# Altium integrated library ON Semi General Purpose Transistors.IntLib: 1679 symbols (part 21 of 36)
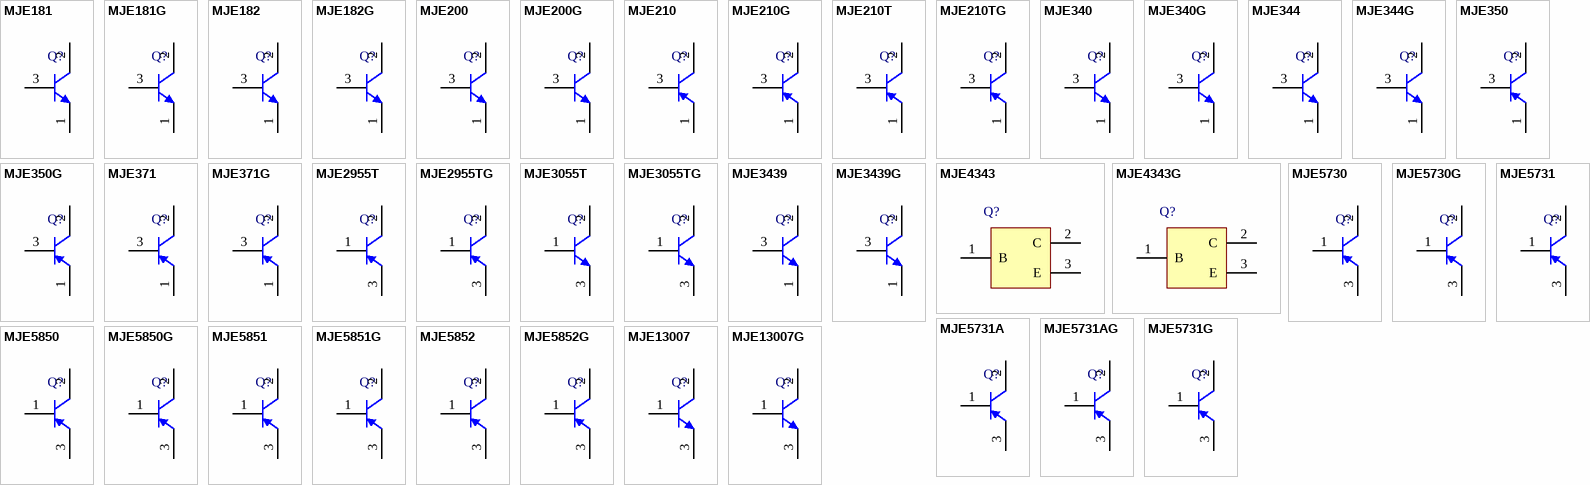
[diagram p65: symbols MJE181 to MJE13007G]

## MJE5851G
designator Q?
SWITCHMODE Series PNP Silicon Power Transistor, 3-Pin TO-220, Pb-Free, Tube; Manufacturer: On Semiconductor; PartNumber: MJE5851G; IC Continuous (A): 8; DatasheetVersion: Rev. 6; PackageVersion: Rev. AG, 09/2011; PackageReference: TO-220-3-221A-09; PackageDescription: 3-Pin Flange Mount, Vertical Straight Lead, Body 9.97 x 4.445 mm, Pitch 2.54 mm; Supplier 1: Digi-Key; Supplier Part Number 1: MJE5851GOS-ND; Supplier 2: Newark; Supplier Part Number 2: 42K1299; Supplier 3: Mouser; Supplier Part Number 3: 863-MJE5851G; Packing: Tube; Polarity: PNP; RoHS: TRUE; Mounting Technology: Through Hole; ComponentLink1Description: Manufacturer URL; ComponentLink1URL: http://www.onsemi.com/; ComponentLink2Description: Datasheet; ComponentLink2URL: http://www.onsemi.com/pub_link/Collateral/MJE5850-D.PDF; ComponentLink3Description: Package Specification; ComponentLink3URL: http://www.onsemi.com/pub_link/Collateral/221A-09.PDF
footprint ONSC-TO-220-3-221A-09 (FM, 3-Leads, Body 10.3x4.85mm, Pitch 2.54mm)
pins: 1 B, 2 C, 3 E

## MJE5852
designator Q?
SWITCHMODE Series PNP Silicon Power Transistor, 3-Pin TO-220, Tube; Manufacturer: On Semiconductor; PartNumber: MJE5852; IC Continuous (A): 8; DatasheetVersion: Rev. 6; PackageVersion: Rev. AG, 09/2011; PackageReference: TO-220-3-221A-09; PackageDescription: 3-Pin Flange Mount, Vertical Straight Lead, Body 9.97 x 4.445 mm, Pitch 2.54 mm; Supplier 1: Digi-Key; Supplier Part Number 1: MJE5852OS-ND; Packing: Tube; Polarity: PNP; RoHS: FALSE; Mounting Technology: Through Hole; ComponentLink1Description: Manufacturer URL; ComponentLink1URL: http://www.onsemi.com/; ComponentLink2Description: Datasheet; ComponentLink2URL: http://www.onsemi.com/pub_link/Collateral/MJE5850-D.PDF; ComponentLink3Description: Package Specification; ComponentLink3URL: http://www.onsemi.com/pub_link/Collateral/221A-09.PDF
footprint ONSC-TO-220-3-221A-09 (FM, 3-Leads, Body 10.3x4.85mm, Pitch 2.54mm)
pins: 1 B, 2 C, 3 E

## MJE5852G
designator Q?
SWITCHMODE Series PNP Silicon Power Transistor, 3-Pin TO-220, Pb-Free, Tube; Manufacturer: On Semiconductor; PartNumber: MJE5852G; IC Continuous (A): 8; DatasheetVersion: Rev. 6; PackageVersion: Rev. AG, 09/2011; PackageReference: TO-220-3-221A-09; PackageDescription: 3-Pin Flange Mount, Vertical Straight Lead, Body 9.97 x 4.445 mm, Pitch 2.54 mm; Supplier 1: Digi-Key; Supplier Part Number 1: MJE5852GOS-ND; Supplier 2: Farnell; Supplier Part Number 2: 9555889; Supplier 3: Newark; Supplier Part Number 3: 26K4469; Supplier 4: Mouser; Supplier Part Number 4: 863-MJE5852G; Packing: Tube; Polarity: PNP; RoHS: TRUE; Mounting Technology: Through Hole; ComponentLink1Description: Manufacturer URL; ComponentLink1URL: http://www.onsemi.com/; ComponentLink2Description: Datasheet; ComponentLink2URL: http://www.onsemi.com/pub_link/Collateral/MJE5850-D.PDF; ComponentLink3Description: Package Specification; ComponentLink3URL: http://www.onsemi.com/pub_link/Collateral/221A-09.PDF
footprint ONSC-TO-220-3-221A-09 (FM, 3-Leads, Body 10.3x4.85mm, Pitch 2.54mm)
pins: 1 B, 2 C, 3 E

## MJE13007
designator Q?
SWITCHMODE, NPN Bipolar Power Transistor for Switching Power Supply Application, 3-Pin TO-220, Tube; Manufacturer: On Semiconductor; PartNumber: MJE13007; fT Min (MHz): 4; IC Continuous (A): 8; DatasheetVersion: Rev. 8; PackageVersion: Rev. AG, 09/2011; PackageReference: TO-220-3-221A-09; PackageDescription: 3-Pin Flange Mount, Vertical Straight Lead, Body 9.97 x 4.445 mm, Pitch 2.54 mm; Supplier 1: Digi-Key; Supplier Part Number 1: MJE13007OS-ND; Packing: Tube; Polarity: NPN; RoHS: FALSE; Mounting Technology: Through Hole; ComponentLink1Description: Manufacturer URL; ComponentLink1URL: http://www.onsemi.com/; ComponentLink2Description: Datasheet; ComponentLink2URL: http://www.onsemi.cn/pub_link/Collateral/MJE13007-D.PDF; ComponentLink3Description: Package Specification; ComponentLink3URL: http://www.onsemi.com/pub_link/Collateral/221A-09.PDF
footprint ONSC-TO-220-3-221A-09 (FM, 3-Leads, Body 10.3x4.85mm, Pitch 2.54mm)
pins: 1 B, 2 C, 3 E

## MJE13007G
designator Q?
SWITCHMODE, NPN Bipolar Power Transistor for Switching Power Supply Application, 3-Pin TO-220, Pb-Free, Tube; Manufacturer: On Semiconductor; PartNumber: MJE13007G; fT Min (MHz): 4; IC Continuous (A): 8; DatasheetVersion: Rev. 8; PackageVersion: Rev. AG, 09/2011; PackageReference: TO-220-3-221A-09; PackageDescription: 3-Pin Flange Mount, Vertical Straight Lead, Body 9.97 x 4.445 mm, Pitch 2.54 mm; Supplier 1: Digi-Key; Supplier Part Number 1: MJE13007GOS-ND; Supplier 2: Farnell; Supplier Part Number 2: 9557857; Supplier 3: Newark; Supplier Part Number 3: 71J5860; Supplier 4: Mouser; Supplier Part Number 4: 863-MJE13007G; Packing: Tube; Polarity: NPN; RoHS: TRUE; Mounting Technology: Through Hole; ComponentLink1Description: Manufacturer URL; ComponentLink1URL: http://www.onsemi.com/; ComponentLink2Description: Datasheet; ComponentLink2URL: http://www.onsemi.cn/pub_link/Collateral/MJE13007-D.PDF; ComponentLink3Description: Package Specification; ComponentLink3URL: http://www.onsemi.com/pub_link/Collateral/221A-09.PDF
footprint ONSC-TO-220-3-221A-09 (FM, 3-Leads, Body 10.3x4.85mm, Pitch 2.54mm)
pins: 1 B, 2 C, 3 E

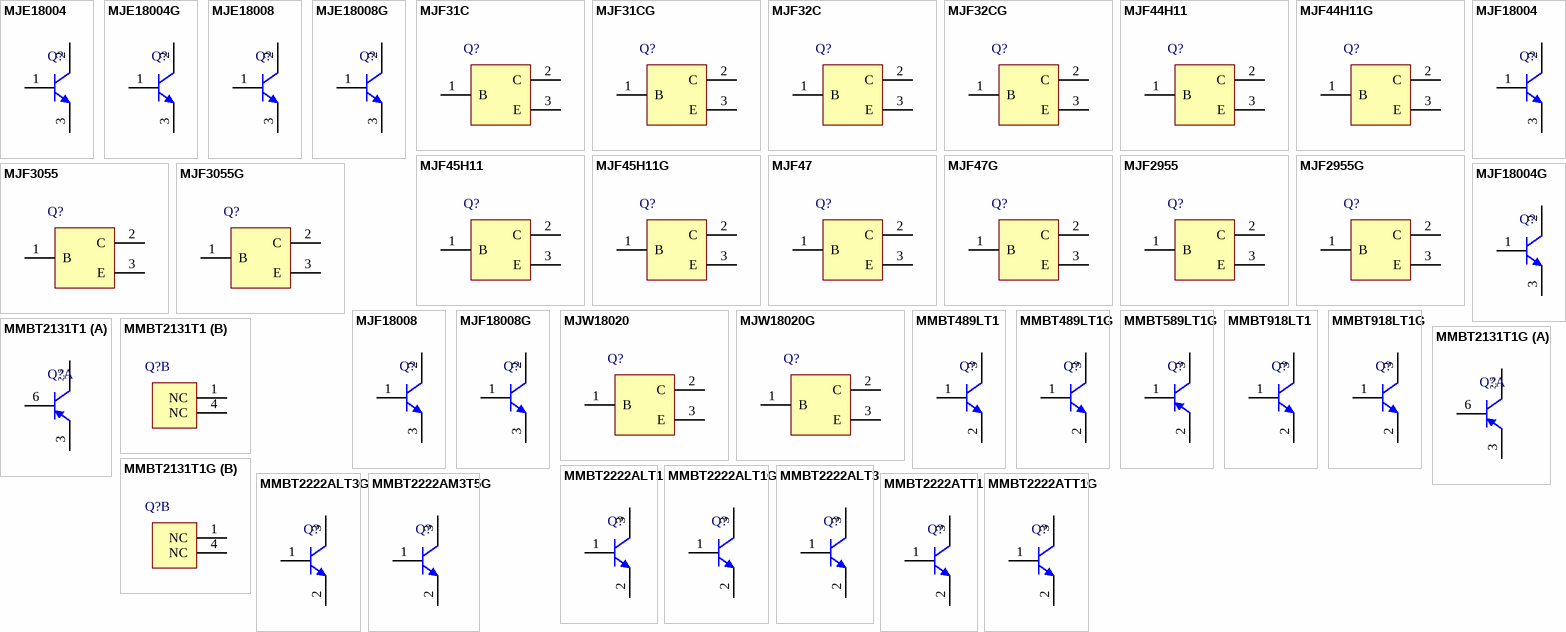
[diagram p26: symbols MJE18004 to MMBT2222ATT1G]

## MJE18004
designator Q?
SWITCHMODE, NPN Bipolar Power Transistor for Switching Power Supply Application, 3-Pin TO-220, Tube; Manufacturer: On Semiconductor; PartNumber: MJE18004; IC Continuous (A): 5; DatasheetVersion: Rev. 11; PackageVersion: Rev. AG, 09/2011; PackageReference: TO-220-3-221A-09; PackageDescription: 3-Pin Flange Mount, Vertical Straight Lead, Body 9.97 x 4.445 mm, Pitch 2.54 mm; Supplier 1: Digi-Key; Supplier Part Number 1: MJE18004OS-ND; Packing: Tube; Polarity: NPN; RoHS: FALSE; Mounting Technology: Through Hole; ComponentLink1Description: Manufacturer URL; ComponentLink1URL: http://www.onsemi.com/; ComponentLink2Description: Datasheet; ComponentLink2URL: http://www.onsemi.com/pub_link/Collateral/MJE18004-D.PDF; ComponentLink3Description: Package Specification; ComponentLink3URL: http://www.onsemi.com/pub_link/Collateral/221A-09.PDF
footprint ONSC-TO-220-3-221A-09 (FM, 3-Leads, Body 10.3x4.85mm, Pitch 2.54mm)
pins: 1 B, 2 C, 3 E

## MJE18004G
designator Q?
SWITCHMODE, NPN Bipolar Power Transistor for Switching Power Supply Application, 3-Pin TO-220, Pb-Free, Tube; Manufacturer: On Semiconductor; PartNumber: MJE18004G; IC Continuous (A): 5; DatasheetVersion: Rev. 11; PackageVersion: Rev. AG, 09/2011; PackageReference: TO-220-3-221A-09; PackageDescription: 3-Pin Flange Mount, Vertical Straight Lead, Body 9.97 x 4.445 mm, Pitch 2.54 mm; Supplier 1: Digi-Key; Supplier Part Number 1: MJE18004GOS-ND; Supplier 2: Newark; Supplier Part Number 2: 26K4456; Supplier 3: Mouser; Supplier Part Number 3: 863-MJE18004G; Packing: Tube; Polarity: NPN; RoHS: TRUE; Mounting Technology: Through Hole; ComponentLink1Description: Manufacturer URL; ComponentLink1URL: http://www.onsemi.com/; ComponentLink2Description: Datasheet; ComponentLink2URL: http://www.onsemi.com/pub_link/Collateral/MJE18004-D.PDF; ComponentLink3Description: Package Specification; ComponentLink3URL: http://www.onsemi.com/pub_link/Collateral/221A-09.PDF
footprint ONSC-TO-220-3-221A-09 (FM, 3-Leads, Body 10.3x4.85mm, Pitch 2.54mm)
pins: 1 B, 2 C, 3 E

## MJE18008
designator Q?
SWITCHMODE, NPN Bipolar Power Transistor for Switching Power Supply Application, 3-Pin TO-220, Tube; Manufacturer: On Semiconductor; PartNumber: MJE18008; IC Continuous (A): 8; DatasheetVersion: Rev. 9; PackageVersion: Rev. AG, 09/2011; PackageReference: TO-220-3-221A-09; PackageDescription: 3-Pin Flange Mount, Vertical Straight Lead, Body 9.97 x 4.445 mm, Pitch 2.54 mm; Supplier 1: Digi-Key; Supplier Part Number 1: MJE18008OS-ND; Packing: Tube; Polarity: NPN; RoHS: FALSE; Mounting Technology: Through Hole; ComponentLink1Description: Manufacturer URL; ComponentLink1URL: http://www.onsemi.com/; ComponentLink2Description: Datasheet; ComponentLink2URL: http://www.onsemi.com/pub_link/Collateral/MJE18008-D.PDF; ComponentLink3Description: Package Specification; ComponentLink3URL: http://www.onsemi.com/pub_link/Collateral/221A-09.PDF
footprint ONSC-TO-220-3-221A-09 (FM, 3-Leads, Body 10.3x4.85mm, Pitch 2.54mm)
pins: 1 B, 2 C, 3 E

## MJE18008G
designator Q?
SWITCHMODE, NPN Bipolar Power Transistor for Switching Power Supply Application, 3-Pin TO-220, Pb-Free, Tube; Manufacturer: On Semiconductor; PartNumber: MJE18008G; IC Continuous (A): 8; DatasheetVersion: Rev. 9; PackageVersion: Rev. AG, 09/2011; PackageReference: TO-220-3-221A-09; PackageDescription: 3-Pin Flange Mount, Vertical Straight Lead, Body 9.97 x 4.445 mm, Pitch 2.54 mm; Supplier 1: Digi-Key; Supplier Part Number 1: MJE18008GOS-ND; Supplier 2: Farnell; Supplier Part Number 2: 1263959; Supplier 3: Newark; Supplier Part Number 3: 45J1499; Supplier 4: Mouser; Supplier Part Number 4: 863-MJE18008G; Packing: Tube; Polarity: NPN; RoHS: TRUE; Mounting Technology: Through Hole; ComponentLink1Description: Manufacturer URL; ComponentLink1URL: http://www.onsemi.com/; ComponentLink2Description: Datasheet; ComponentLink2URL: http://www.onsemi.com/pub_link/Collateral/MJE18008-D.PDF; ComponentLink3Description: Package Specification; ComponentLink3URL: http://www.onsemi.com/pub_link/Collateral/221A-09.PDF
footprint ONSC-TO-220-3-221A-09 (FM, 3-Leads, Body 10.3x4.85mm, Pitch 2.54mm)
pins: 1 B, 2 C, 3 E

## MJF31C
designator Q?
Complementary Silicon Plastic Power Transistor for Isolated Package Application, 3-Pin TO-220, Tube; Manufacturer: On Semiconductor; PartNumber: MJF31C; fT Min (MHz): 3; Polarity: NPN; DatasheetVersion: Rev. 5; PackageVersion: Rev. K, 02/2009; PackageReference: TO-220-3-221D-03; PackageDescription: 3-Pin Flange Mount, Vertical Straight Lead, Body 10.295 x 4.7 mm, Pitch 2.54 mm; Supplier 1: Digi-Key; Supplier Part Number 1: MJF31C-ND; IC Continuous (A): 3; Packing: Tube; RoHS: FALSE; Mounting Technology: Through Hole; ComponentLink1Description: Manufacturer URL; ComponentLink1URL: http://www.onsemi.com/; ComponentLink2Description: Datasheet; ComponentLink2URL: http://www.onsemi.com/pub_link/Collateral/MJF31C-D.PDF; ComponentLink3Description: Package Specification; ComponentLink3URL: http://www.onsemi.com/pub_link/Collateral/221D-03.PDF
footprint ONSC-TO-220-3-221D-03 (FM, 3-Leads, Body 10.65x4.9mm, Pitch 2.54mm)
pins: 1 B, 2 C, 3 E

## MJF31CG
designator Q?
Complementary Silicon Plastic Power Transistor for Isolated Package Application, 3-Pin TO-220, Pb-Free, Tube; Manufacturer: On Semiconductor; PartNumber: MJF31CG; fT Min (MHz): 3; Polarity: NPN; DatasheetVersion: Rev. 5; PackageVersion: Rev. K, 02/2009; PackageReference: TO-220-3-221D-03; PackageDescription: 3-Pin Flange Mount, Vertical Straight Lead, Body 10.295 x 4.7 mm, Pitch 2.54 mm; Supplier 1: Digi-Key; Supplier Part Number 1: MJF31CGOS-ND; Supplier 2: Farnell; Supplier Part Number 2: 1364072; Supplier 3: Newark; Supplier Part Number 3: 26K4479; Supplier 4: Mouser; Supplier Part Number 4: 863-MJF31CG; IC Continuous (A): 3; Packing: Tube; RoHS: TRUE; Mounting Technology: Through Hole; ComponentLink1Description: Manufacturer URL; ComponentLink1URL: http://www.onsemi.com/; ComponentLink2Description: Datasheet; ComponentLink2URL: http://www.onsemi.com/pub_link/Collateral/MJF31C-D.PDF; ComponentLink3Description: Package Specification; ComponentLink3URL: http://www.onsemi.com/pub_link/Collateral/221D-03.PDF
footprint ONSC-TO-220-3-221D-03 (FM, 3-Leads, Body 10.65x4.9mm, Pitch 2.54mm)
pins: 1 B, 2 C, 3 E

## MJF32C
designator Q?
Complementary Silicon Plastic Power Transistor for Isolated Package Application, 3-Pin TO-220, Tube; Manufacturer: On Semiconductor; PartNumber: MJF32C; fT Min (MHz): 3; Polarity: PNP; DatasheetVersion: Rev. 5; PackageVersion: Rev. K, 02/2009; PackageReference: TO-220-3-221D-03; PackageDescription: 3-Pin Flange Mount, Vertical Straight Lead, Body 10.295 x 4.7 mm, Pitch 2.54 mm; Supplier 1: Digi-Key; Supplier Part Number 1: MJF32C-ND; IC Continuous (A): 3; Packing: Tube; RoHS: FALSE; Mounting Technology: Through Hole; ComponentLink1Description: Manufacturer URL; ComponentLink1URL: http://www.onsemi.com/; ComponentLink2Description: Datasheet; ComponentLink2URL: http://www.onsemi.com/pub_link/Collateral/MJF31C-D.PDF; ComponentLink3Description: Package Specification; ComponentLink3URL: http://www.onsemi.com/pub_link/Collateral/221D-03.PDF
footprint ONSC-TO-220-3-221D-03 (FM, 3-Leads, Body 10.65x4.9mm, Pitch 2.54mm)
pins: 1 B, 2 C, 3 E

## MJF32CG
designator Q?
Complementary Silicon Plastic Power Transistor for Isolated Package Application, 3-Pin TO-220, Pb-Free, Tube; Manufacturer: On Semiconductor; PartNumber: MJF32CG; fT Min (MHz): 3; Polarity: PNP; DatasheetVersion: Rev. 5; PackageVersion: Rev. K, 02/2009; PackageReference: TO-220-3-221D-03; PackageDescription: 3-Pin Flange Mount, Vertical Straight Lead, Body 10.295 x 4.7 mm, Pitch 2.54 mm; Supplier 1: Digi-Key; Supplier Part Number 1: MJF32CG-ND; Supplier 2: Newark; Supplier Part Number 2: 71J5862; Supplier 3: Mouser; Supplier Part Number 3: 863-MJF32CG; IC Continuous (A): 3; Packing: Tube; RoHS: TRUE; Mounting Technology: Through Hole; ComponentLink1Description: Manufacturer URL; ComponentLink1URL: http://www.onsemi.com/; ComponentLink2Description: Datasheet; ComponentLink2URL: http://www.onsemi.com/pub_link/Collateral/MJF31C-D.PDF; ComponentLink3Description: Package Specification; ComponentLink3URL: http://www.onsemi.com/pub_link/Collateral/221D-03.PDF
footprint ONSC-TO-220-3-221D-03 (FM, 3-Leads, Body 10.65x4.9mm, Pitch 2.54mm)
pins: 1 B, 2 C, 3 E

## MJF44H11
designator Q?
Complementary Power Transistor for Isolated Package Application, 3-Pin TO-220, Tube; Manufacturer: On Semiconductor; PartNumber: MJF44H11; IC Continuous (A): 10; Polarity: NPN; DatasheetVersion: Rev. 6; PackageVersion: Rev. K, 02/2009; PackageReference: TO-220-3-221D-03; PackageDescription: 3-Pin Flange Mount, Vertical Straight Lead, Body 10.295 x 4.7 mm, Pitch 2.54 mm; Supplier 1: Digi-Key; Supplier Part Number 1: MJF44H11OS-ND; Packing: Tube; RoHS: FALSE; Mounting Technology: Through Hole; ComponentLink1Description: Manufacturer URL; ComponentLink1URL: http://www.onsemi.com/; ComponentLink2Description: Datasheet; ComponentLink2URL: http://www.onsemi.com/pub_link/Collateral/MJF44H11-D.PDF; ComponentLink3Description: Package Specification; ComponentLink3URL: http://www.onsemi.com/pub_link/Collateral/221D-03.PDF
footprint ONSC-TO-220-3-221D-03 (FM, 3-Leads, Body 10.65x4.9mm, Pitch 2.54mm)
pins: 1 B, 2 C, 3 E

## MJF44H11G
designator Q?
Complementary Power Transistor for Isolated Package Application, 3-Pin TO-220, Pb-Free, Tube; Manufacturer: On Semiconductor; PartNumber: MJF44H11G; IC Continuous (A): 10; Polarity: NPN; DatasheetVersion: Rev. 6; PackageVersion: Rev. K, 02/2009; PackageReference: TO-220-3-221D-03; PackageDescription: 3-Pin Flange Mount, Vertical Straight Lead, Body 10.295 x 4.7 mm, Pitch 2.54 mm; Supplier 1: Digi-Key; Supplier Part Number 1: MJF44H11GOS-ND; Supplier 2: Farnell; Supplier Part Number 2: 1242424; Supplier 3: Newark; Supplier Part Number 3: 42K1301; Supplier 4: Mouser; Supplier Part Number 4: 863-MJF44H11G; Packing: Tube; RoHS: TRUE; Mounting Technology: Through Hole; ComponentLink1Description: Manufacturer URL; ComponentLink1URL: http://www.onsemi.com/; ComponentLink2Description: Datasheet; ComponentLink2URL: http://www.onsemi.com/pub_link/Collateral/MJF44H11-D.PDF; ComponentLink3Description: Package Specification; ComponentLink3URL: http://www.onsemi.com/pub_link/Collateral/221D-03.PDF
footprint ONSC-TO-220-3-221D-03 (FM, 3-Leads, Body 10.65x4.9mm, Pitch 2.54mm)
pins: 1 B, 2 C, 3 E

## MJF45H11
designator Q?
Complementary Power Transistor for Isolated Package Application, 3-Pin TO-220, Tube; Manufacturer: On Semiconductor; PartNumber: MJF45H11; IC Continuous (A): 10; Polarity: PNP; DatasheetVersion: Rev. 6; PackageVersion: Rev. K, 02/2009; PackageReference: TO-220-3-221D-03; PackageDescription: 3-Pin Flange Mount, Vertical Straight Lead, Body 10.295 x 4.7 mm, Pitch 2.54 mm; Supplier 1: Digi-Key; Supplier Part Number 1: MJF45H11-ND; Packing: Tube; RoHS: FALSE; Mounting Technology: Through Hole; ComponentLink1Description: Manufacturer URL; ComponentLink1URL: http://www.onsemi.com/; ComponentLink2Description: Datasheet; ComponentLink2URL: http://www.onsemi.com/pub_link/Collateral/MJF44H11-D.PDF; ComponentLink3Description: Package Specification; ComponentLink3URL: http://www.onsemi.com/pub_link/Collateral/221D-03.PDF
footprint ONSC-TO-220-3-221D-03 (FM, 3-Leads, Body 10.65x4.9mm, Pitch 2.54mm)
pins: 1 B, 2 C, 3 E

## MJF45H11G
designator Q?
Complementary Power Transistor for Isolated Package Application, 3-Pin TO-220, Pb-Free, Tube; Manufacturer: On Semiconductor; PartNumber: MJF45H11G; IC Continuous (A): 10; Polarity: PNP; DatasheetVersion: Rev. 6; PackageVersion: Rev. K, 02/2009; PackageReference: TO-220-3-221D-03; PackageDescription: 3-Pin Flange Mount, Vertical Straight Lead, Body 10.295 x 4.7 mm, Pitch 2.54 mm; Supplier 1: Digi-Key; Supplier Part Number 1: MJF45H11GOS-ND; Supplier 2: Farnell; Supplier Part Number 2: 1147708; Supplier 3: Newark; Supplier Part Number 3: 42K1302; Supplier 4: Mouser; Supplier Part Number 4: 863-MJF45H11G; Packing: Tube; RoHS: TRUE; Mounting Technology: Through Hole; ComponentLink1Description: Manufacturer URL; ComponentLink1URL: http://www.onsemi.com/; ComponentLink2Description: Datasheet; ComponentLink2URL: http://www.onsemi.com/pub_link/Collateral/MJF44H11-D.PDF; ComponentLink3Description: Package Specification; ComponentLink3URL: http://www.onsemi.com/pub_link/Collateral/221D-03.PDF
footprint ONSC-TO-220-3-221D-03 (FM, 3-Leads, Body 10.65x4.9mm, Pitch 2.54mm)
pins: 1 B, 2 C, 3 E

## MJF47
designator Q?
High Voltage Power Transistor, Isolated Package Application, 3-Pin TO-220, Tube; Manufacturer: On Semiconductor; PartNumber: MJF47; fT Min (MHz): 10; IC Continuous (A): 1; Polarity: NPN; DatasheetVersion: Rev. 6; PackageVersion: Rev. K, 02/2009; PackageReference: TO-220-3-221D-03; PackageDescription: 3-Pin Flange Mount, Vertical Straight Lead, Body 10.295 x 4.7 mm, Pitch 2.54 mm; Supplier 1: Digi-Key; Supplier Part Number 1: MJF47OS-ND; Packing: Tube; RoHS: FALSE; Mounting Technology: Through Hole; ComponentLink1Description: Manufacturer URL; ComponentLink1URL: http://www.onsemi.com/; ComponentLink2Description: Datasheet; ComponentLink2URL: http://www.onsemi.com/pub_link/Collateral/MJF47-D.PDF; ComponentLink3Description: Package Specification; ComponentLink3URL: http://www.onsemi.com/pub_link/Collateral/221D-03.PDF
footprint ONSC-TO-220-3-221D-03 (FM, 3-Leads, Body 10.65x4.9mm, Pitch 2.54mm)
pins: 1 B, 2 C, 3 E

## MJF47G
designator Q?
High Voltage Power Transistor, Isolated Package Application, 3-Pin TO-220, Pb-Free, Tube; Manufacturer: On Semiconductor; PartNumber: MJF47G; fT Min (MHz): 10; IC Continuous (A): 1; Polarity: NPN; DatasheetVersion: Rev. 6; PackageVersion: Rev. K, 02/2009; PackageReference: TO-220-3-221D-03; PackageDescription: 3-Pin Flange Mount, Vertical Straight Lead, Body 10.295 x 4.7 mm, Pitch 2.54 mm; Supplier 1: Digi-Key; Supplier Part Number 1: MJF47GOS-ND; Supplier 2: Newark; Supplier Part Number 2: 42K1303; Supplier 3: Mouser; Supplier Part Number 3: 863-MJF47G; Packing: Tube; RoHS: TRUE; Mounting Technology: Through Hole; ComponentLink1Description: Manufacturer URL; ComponentLink1URL: http://www.onsemi.com/; ComponentLink2Description: Datasheet; ComponentLink2URL: http://www.onsemi.com/pub_link/Collateral/MJF47-D.PDF; ComponentLink3Description: Package Specification; ComponentLink3URL: http://www.onsemi.com/pub_link/Collateral/221D-03.PDF
footprint ONSC-TO-220-3-221D-03 (FM, 3-Leads, Body 10.65x4.9mm, Pitch 2.54mm)
pins: 1 B, 2 C, 3 E

## MJF2955
designator Q?
Complementary Silicon Power Transistor, 3-Pin TO-220, Tube; Manufacturer: On Semiconductor; PartNumber: MJF2955; fT Min (MHz): 2; IC Continuous (A): 10; Polarity: PNP; DatasheetVersion: Rev. 7; PackageVersion: Rev. K, 02/2009; PackageReference: TO-220-3-221D-03; PackageDescription: 3-Pin Flange Mount, Vertical Straight Lead, Body 10.295 x 4.7 mm, Pitch 2.54 mm; Supplier 1: Digi-Key; Supplier Part Number 1: MJF2955-ND; Packing: Tube; RoHS: FALSE; Mounting Technology: Through Hole; ComponentLink1Description: Manufacturer URL; ComponentLink1URL: http://www.onsemi.com/; ComponentLink2Description: Datasheet; ComponentLink2URL: http://www.onsemi.com/pub_link/Collateral/MJF3055-D.PDF; ComponentLink3Description: Package Specification; ComponentLink3URL: http://www.onsemi.com/pub_link/Collateral/221D-03.PDF
footprint ONSC-TO-220-3-221D-03 (FM, 3-Leads, Body 10.65x4.9mm, Pitch 2.54mm)
pins: 1 B, 2 C, 3 E

## MJF2955G
designator Q?
Complementary Silicon Power Transistor, 3-Pin TO-220, Pb-Free, Tube; Manufacturer: On Semiconductor; PartNumber: MJF2955G; fT Min (MHz): 2; IC Continuous (A): 10; Polarity: PNP; DatasheetVersion: Rev. 7; PackageVersion: Rev. K, 02/2009; PackageReference: TO-220-3-221D-03; PackageDescription: 3-Pin Flange Mount, Vertical Straight Lead, Body 10.295 x 4.7 mm, Pitch 2.54 mm; Supplier 1: Digi-Key; Supplier Part Number 1: MJF2955GOS-ND; Supplier 2: Newark; Supplier Part Number 2: 98H0740; Supplier 3: Mouser; Supplier Part Number 3: 863-MJF2955G; Packing: Tube; RoHS: TRUE; Mounting Technology: Through Hole; ComponentLink1Description: Manufacturer URL; ComponentLink1URL: http://www.onsemi.com/; ComponentLink2Description: Datasheet; ComponentLink2URL: http://www.onsemi.com/pub_link/Collateral/MJF3055-D.PDF; ComponentLink3Description: Package Specification; ComponentLink3URL: http://www.onsemi.com/pub_link/Collateral/221D-03.PDF
footprint ONSC-TO-220-3-221D-03 (FM, 3-Leads, Body 10.65x4.9mm, Pitch 2.54mm)
pins: 1 B, 2 C, 3 E

## MJF3055
designator Q?
Complementary Silicon Power Transistor, 3-Pin TO-220, Tube; Manufacturer: On Semiconductor; PartNumber: MJF3055; fT Min (MHz): 2; IC Continuous (A): 10; Polarity: NPN; DatasheetVersion: Rev. 7; PackageVersion: Rev. K, 02/2009; PackageReference: TO-220-3-221D-03; PackageDescription: 3-Pin Flange Mount, Vertical Straight Lead, Body 10.295 x 4.7 mm, Pitch 2.54 mm; Supplier 1: Digi-Key; Supplier Part Number 1: MJF3055OS-ND; Packing: Tube; RoHS: FALSE; Mounting Technology: Through Hole; ComponentLink1Description: Manufacturer URL; ComponentLink1URL: http://www.onsemi.com/; ComponentLink2Description: Datasheet; ComponentLink2URL: http://www.onsemi.com/pub_link/Collateral/MJF3055-D.PDF; ComponentLink3Description: Package Specification; ComponentLink3URL: http://www.onsemi.com/pub_link/Collateral/221D-03.PDF
footprint ONSC-TO-220-3-221D-03 (FM, 3-Leads, Body 10.65x4.9mm, Pitch 2.54mm)
pins: 1 B, 2 C, 3 E

## MJF3055G
designator Q?
Complementary Silicon Power Transistor, 3-Pin TO-220, Pb-Free, Tube; Manufacturer: On Semiconductor; PartNumber: MJF3055G; fT Min (MHz): 2; IC Continuous (A): 10; Polarity: NPN; DatasheetVersion: Rev. 7; PackageVersion: Rev. K, 02/2009; PackageReference: TO-220-3-221D-03; PackageDescription: 3-Pin Flange Mount, Vertical Straight Lead, Body 10.295 x 4.7 mm, Pitch 2.54 mm; Supplier 1: Digi-Key; Supplier Part Number 1: MJF3055GOS-ND; Supplier 2: Farnell; Supplier Part Number 2: 2101380; Supplier 3: Newark; Supplier Part Number 3: 45J1508; Supplier 4: Mouser; Supplier Part Number 4: 863-MJF3055G; Packing: Tube; RoHS: TRUE; Mounting Technology: Through Hole; ComponentLink1Description: Manufacturer URL; ComponentLink1URL: http://www.onsemi.com/; ComponentLink2Description: Datasheet; ComponentLink2URL: http://www.onsemi.com/pub_link/Collateral/MJF3055-D.PDF; ComponentLink3Description: Package Specification; ComponentLink3URL: http://www.onsemi.com/pub_link/Collateral/221D-03.PDF
footprint ONSC-TO-220-3-221D-03 (FM, 3-Leads, Body 10.65x4.9mm, Pitch 2.54mm)
pins: 1 B, 2 C, 3 E

## MJF18004
designator Q?
SWITCHMODE, NPN Bipolar Power Transistor for Switching Power Supply Application, 3-Pin TO-220, Tube; Manufacturer: On Semiconductor; PartNumber: MJF18004; IC Continuous (A): 5; DatasheetVersion: Rev. 11; PackageVersion: Rev. K, 02/2009; PackageReference: TO-220-3-221D-03; PackageDescription: 3-Pin Flange Mount, Vertical Straight Lead, Body 10.295 x 4.7 mm, Pitch 2.54 mm; Supplier 1: Digi-Key; Supplier Part Number 1: MJF18004OS-ND; Packing: Tube; Polarity: NPN; RoHS: FALSE; Mounting Technology: Through Hole; ComponentLink1Description: Manufacturer URL; ComponentLink1URL: http://www.onsemi.com/; ComponentLink2Description: Datasheet; ComponentLink2URL: http://www.onsemi.com/pub_link/Collateral/MJE18004-D.PDF; ComponentLink3Description: Package Specification; ComponentLink3URL: http://www.onsemi.com/pub_link/Collateral/221D-03.PDF
footprint ONSC-TO-220-3-221D-03 (FM, 3-Leads, Body 10.65x4.9mm, Pitch 2.54mm)
pins: 1 B, 2 C, 3 E

## MJF18004G
designator Q?
SWITCHMODE, NPN Bipolar Power Transistor for Switching Power Supply Application, 3-Pin TO-220, Pb-Free, Tube; Manufacturer: On Semiconductor; PartNumber: MJF18004G; IC Continuous (A): 5; DatasheetVersion: Rev. 11; PackageVersion: Rev. K, 02/2009; PackageReference: TO-220-3-221D-03; PackageDescription: 3-Pin Flange Mount, Vertical Straight Lead, Body 10.295 x 4.7 mm, Pitch 2.54 mm; Supplier 1: Digi-Key; Supplier Part Number 1: MJF18004GOS-ND; Supplier 2: Farnell; Supplier Part Number 2: 9557873; Supplier 3: Newark; Supplier Part Number 3: 26K4478; Supplier 4: Mouser; Supplier Part Number 4: 863-MJF18004G; Packing: Tube; Polarity: NPN; RoHS: TRUE; Mounting Technology: Through Hole; ComponentLink1Description: Manufacturer URL; ComponentLink1URL: http://www.onsemi.com/; ComponentLink2Description: Datasheet; ComponentLink2URL: http://www.onsemi.com/pub_link/Collateral/MJE18004-D.PDF; ComponentLink3Description: Package Specification; ComponentLink3URL: http://www.onsemi.com/pub_link/Collateral/221D-03.PDF
footprint ONSC-TO-220-3-221D-03 (FM, 3-Leads, Body 10.65x4.9mm, Pitch 2.54mm)
pins: 1 B, 2 C, 3 E

## MJF18008
designator Q?
SWITCHMODE, NPN Bipolar Power Transistor for Switching Power Supply Application, 3-Pin TO-220, Tube; Manufacturer: On Semiconductor; PartNumber: MJF18008; IC Continuous (A): 8; DatasheetVersion: Rev. 9; PackageVersion: Rev. K, 02/2009; PackageReference: TO-220-3-221D-03; PackageDescription: 3-Pin Flange Mount, Vertical Straight Lead, Body 10.295 x 4.7 mm, Pitch 2.54 mm; Supplier 1: Digi-Key; Supplier Part Number 1: MJF18008OS-ND; Packing: Tube; Polarity: NPN; RoHS: FALSE; Mounting Technology: Through Hole; ComponentLink1Description: Manufacturer URL; ComponentLink1URL: http://www.onsemi.com/; ComponentLink2Description: Datasheet; ComponentLink2URL: http://www.onsemi.com/pub_link/Collateral/MJE18008-D.PDF; ComponentLink3Description: Package Specification; ComponentLink3URL: http://www.onsemi.com/pub_link/Collateral/221D-03.PDF
footprint ONSC-TO-220-3-221D-03 (FM, 3-Leads, Body 10.65x4.9mm, Pitch 2.54mm)
pins: 1 B, 2 C, 3 E

## MJF18008G
designator Q?
SWITCHMODE, NPN Bipolar Power Transistor for Switching Power Supply Application, 3-Pin TO-220, Pb-Free, Tube; Manufacturer: On Semiconductor; PartNumber: MJF18008G; IC Continuous (A): 8; DatasheetVersion: Rev. 9; PackageVersion: Rev. K, 02/2009; PackageReference: TO-220-3-221D-03; PackageDescription: 3-Pin Flange Mount, Vertical Straight Lead, Body 10.295 x 4.7 mm, Pitch 2.54 mm; Supplier 1: Digi-Key; Supplier Part Number 1: MJF18008GOS-ND; Supplier 2: Newark; Supplier Part Number 2: 45J1507; Supplier 3: Mouser; Supplier Part Number 3: 863-MJF18008G; Packing: Tube; Polarity: NPN; RoHS: TRUE; Mounting Technology: Through Hole; ComponentLink1Description: Manufacturer URL; ComponentLink1URL: http://www.onsemi.com/; ComponentLink2Description: Datasheet; ComponentLink2URL: http://www.onsemi.com/pub_link/Collateral/MJE18008-D.PDF; ComponentLink3Description: Package Specification; ComponentLink3URL: http://www.onsemi.com/pub_link/Collateral/221D-03.PDF
footprint ONSC-TO-220-3-221D-03 (FM, 3-Leads, Body 10.65x4.9mm, Pitch 2.54mm)
pins: 1 B, 2 C, 3 E

## MJW18020
designator Q?
NPN Silicon Power Transistor High Voltage Planar, 3-Pin TO-247, Tube; Manufacturer: On Semiconductor; PartNumber: MJW18020; Note: 0; IC Continuous (A): 30; DatasheetVersion: Rev. 3; PackageVersion: Rev. F, 10/2011; PackageReference: TO-247-3-340L-02; PackageDescription: 3-Pin Flange Mount, Vertical Straight Lead, Body 16.005 x 5 mm, Pitch 5.45 mm; Packing: Tube; Polarity: NPN; RoHS: FALSE; Mounting Technology: Through Hole; ComponentLink1Description: Manufacturer URL; ComponentLink1URL: http://www.onsemi.com/; ComponentLink2Description: Datasheet; ComponentLink2URL: http://www.onsemi.com/pub_link/Collateral/MJW18020-D.PDF; ComponentLink3Description: Package Specification; ComponentLink3URL: http://www.onsemi.cn/pub_link/Collateral/340L-02.PDF
footprint ONSC-TO-247-3-340L-02 (FM, 3-Leads, Body 16.3x5.3mm, Pitch 5.45mm)
pins: 1 B, 2 C, 3 E

## MJW18020G
designator Q?
NPN Silicon Power Transistor High Voltage Planar, 3-Pin TO-247, Pb-Free, Tube; Manufacturer: On Semiconductor; PartNumber: MJW18020G; IC Continuous (A): 30; DatasheetVersion: Rev. 3; PackageVersion: Rev. F, 10/2011; PackageReference: TO-247-3-340L-02; PackageDescription: 3-Pin Flange Mount, Vertical Straight Lead, Body 16.005 x 5 mm, Pitch 5.45 mm; Supplier 1: Digi-Key; Supplier Part Number 1: MJW18020GOS-ND; Supplier 2: Newark; Supplier Part Number 2: 42K1308; Supplier 3: Mouser; Supplier Part Number 3: 863-MJW18020G; Packing: Tube; Polarity: NPN; RoHS: TRUE; Mounting Technology: Through Hole; ComponentLink1Description: Manufacturer URL; ComponentLink1URL: http://www.onsemi.com/; ComponentLink2Description: Datasheet; ComponentLink2URL: http://www.onsemi.com/pub_link/Collateral/MJW18020-D.PDF; ComponentLink3Description: Package Specification; ComponentLink3URL: http://www.onsemi.cn/pub_link/Collateral/340L-02.PDF
footprint ONSC-TO-247-3-340L-02 (FM, 3-Leads, Body 16.3x5.3mm, Pitch 5.45mm)
pins: 1 B, 2 C, 3 E

## MMBT489LT1
designator Q?
High Current Surface Mount NPN Silicon Switching Transistor for Load Management in Portable Application, 3-Pin SOT-23, Tape and Reel; Manufacturer: On Semiconductor; PartNumber: MMBT489LT1; Note: 0; fT Min (MHz): 100; IC Continuous (A): 1; DatasheetVersion: Rev. 5; PackageVersion: Rev. AP, 11/2009; PackageReference: SOT-23-3-318-08; PackageDescription: 3-Pin Small Outline Transistor, Body 2.92 x 1.3 mm, Pitch 0.95 mm; Packing: Tape and Reel; Polarity: NPN; RoHS: FALSE; Mounting Technology: Surface Mount; ComponentLink1Description: Manufacturer URL; ComponentLink1URL: http://www.onsemi.com/; ComponentLink2Description: Datasheet; ComponentLink2URL: http://www.onsemi.cn/pub_link/Collateral/MMBT489LT1-D.PDF; ComponentLink3Description: Package Specification; ComponentLink3URL: http://www.onsemi.cn/pub_link/Collateral/318-08.PDF
footprint ONSC-SOT-23-3-318-08_V (SOT23, 3-Leads, Body 2.92x1.3mm, Pitch 0.95mm)
pins: 1 B, 2 E, 3 C

## MMBT489LT1G
designator Q?
High Current Surface Mount NPN Silicon Switching Transistor for Load Management in Portable Application, 3-Pin SOT-23, Pb-Free, Tape and Reel; Manufacturer: On Semiconductor; PartNumber: MMBT489LT1G; fT Min (MHz): 100; IC Continuous (A): 1; DatasheetVersion: Rev. 5; PackageVersion: Rev. AP, 11/2009; PackageReference: SOT-23-3-318-08; PackageDescription: 3-Pin Small Outline Transistor, Body 2.92 x 1.3 mm, Pitch 0.95 mm; Supplier 1: Digi-Key; Supplier Part Number 1: MMBT489LT1GOSTR-ND; Supplier 2: Digi-Key; Supplier Part Number 2: MMBT489LT1GOSCT-ND; Supplier 3: Digi-Key; Supplier Part Number 3: MMBT489LT1GOSDKR-ND; Supplier 4: Farnell; Supplier Part Number 4: 2371143; Supplier 5: Newark; Supplier Part Number 5: 71J5994; Supplier 6: Newark; Supplier Part Number 6: 10N9480; Supplier 7: Mouser; Supplier Part Number 7: 863-MMBT489LT1G; Packing: Tape and Reel; Polarity: NPN; RoHS: TRUE; Mounting Technology: Surface Mount; ComponentLink1Description: Manufacturer URL; ComponentLink1URL: http://www.onsemi.com/; ComponentLink2Description: Datasheet; ComponentLink2URL: http://www.onsemi.cn/pub_link/Collateral/MMBT489LT1-D.PDF; ComponentLink3Description: Package Specification; ComponentLink3URL: http://www.onsemi.cn/pub_link/Collateral/318-08.PDF
footprint ONSC-SOT-23-3-318-08_V (SOT23, 3-Leads, Body 2.92x1.3mm, Pitch 0.95mm)
pins: 1 B, 2 E, 3 C

## MMBT589LT1G
designator Q?
High Current Surface Mount PNP Silicon Switching Transistor for Load Management in Portable Application, 3-Pin SOT-23, Pb-Free, Tape and Reel; Manufacturer: On Semiconductor; PartNumber: MMBT589LT1G; fT Min (MHz): 100; IC Continuous (A): -1; DatasheetVersion: Rev. 6; PackageVersion: Rev. AP, 11/2009; PackageReference: SOT-23-3-318-08; PackageDescription: 3-Pin Small Outline Transistor, Body 2.92 x 1.3 mm, Pitch 0.95 mm; Supplier 1: Digi-Key; Supplier Part Number 1: MMBT589LT1GOSTR-ND; Supplier 2: Digi-Key; Supplier Part Number 2: MMBT589LT1GOSCT-ND; Supplier 3: Digi-Key; Supplier Part Number 3: MMBT589LT1GOSDKR-ND; Supplier 4: Newark; Supplier Part Number 4: 83H7338; Supplier 5: Mouser; Supplier Part Number 5: 863-MMBT589LT1G; Packing: Tape and Reel; Polarity: PNP; RoHS: TRUE; Mounting Technology: Surface Mount; ComponentLink1Description: Manufacturer URL; ComponentLink1URL: http://www.onsemi.com/; ComponentLink2Description: Datasheet; ComponentLink2URL: http://www.onsemi.cn/pub_link/Collateral/MMBT589LT1-D.PDF; ComponentLink3Description: Package Specification; ComponentLink3URL: http://www.onsemi.cn/pub_link/Collateral/318-08.PDF
footprint ONSC-SOT-23-3-318-08_V (SOT23, 3-Leads, Body 2.92x1.3mm, Pitch 0.95mm)
pins: 1 B, 2 E, 3 C

## MMBT918LT1
designator Q?
VHF / UHF Transistor, NPN Silicon, 3-Pin SOT-23, Tape and Reel; Manufacturer: On Semiconductor; PartNumber: MMBT918LT1; fT Min (MHz): 600; IC Continuous (A): 0.05; DatasheetVersion: Rev. 6; PackageVersion: Rev. AP, 11/2009; PackageReference: SOT-23-3-318-08; PackageDescription: 3-Pin Small Outline Transistor, Body 2.92 x 1.3 mm, Pitch 0.95 mm; Supplier 1: Digi-Key; Supplier Part Number 1: MMBT918LT1OSCT-ND; Packing: Tape and Reel; Polarity: NPN; RoHS: FALSE; Mounting Technology: Surface Mount; ComponentLink1Description: Manufacturer URL; ComponentLink1URL: http://www.onsemi.com/; ComponentLink2Description: Datasheet; ComponentLink2URL: http://www.onsemi.cn/pub_link/Collateral/MMBT918LT1-D.PDF; ComponentLink3Description: Package Specification; ComponentLink3URL: http://www.onsemi.cn/pub_link/Collateral/318-08.PDF
footprint ONSC-SOT-23-3-318-08_V (SOT23, 3-Leads, Body 2.92x1.3mm, Pitch 0.95mm)
pins: 1 B, 2 E, 3 C

## MMBT918LT1G
designator Q?
VHF / UHF Transistor, NPN Silicon, 3-Pin SOT-23, Pb-Free, Tape and Reel; Manufacturer: On Semiconductor; PartNumber: MMBT918LT1G; fT Min (MHz): 600; IC Continuous (A): 0.05; DatasheetVersion: Rev. 6; PackageVersion: Rev. AP, 11/2009; PackageReference: SOT-23-3-318-08; PackageDescription: 3-Pin Small Outline Transistor, Body 2.92 x 1.3 mm, Pitch 0.95 mm; Supplier 1: Digi-Key; Supplier Part Number 1: MMBT918LT1GOSTR-ND; Supplier 2: Digi-Key; Supplier Part Number 2: MMBT918LT1GOSCT-ND; Supplier 3: Digi-Key; Supplier Part Number 3: MMBT918LT1GOSDKR-ND; Supplier 4: Newark; Supplier Part Number 4: 98H0757; Supplier 5: Mouser; Supplier Part Number 5: 863-MMBT918LT1G; Packing: Tape and Reel; Polarity: NPN; RoHS: TRUE; Mounting Technology: Surface Mount; ComponentLink1Description: Manufacturer URL; ComponentLink1URL: http://www.onsemi.com/; ComponentLink2Description: Datasheet; ComponentLink2URL: http://www.onsemi.cn/pub_link/Collateral/MMBT918LT1-D.PDF; ComponentLink3Description: Package Specification; ComponentLink3URL: http://www.onsemi.cn/pub_link/Collateral/318-08.PDF
footprint ONSC-SOT-23-3-318-08_V (SOT23, 3-Leads, Body 2.92x1.3mm, Pitch 0.95mm)
pins: 1 B, 2 E, 3 C

## MMBT2131T1
designator Q?
PNP Bipolar Junction Transistor, 6-Pin SC-74, Tape and Reel; Manufacturer: On Semiconductor; PartNumber: MMBT2131T1; Note: 0; IC Continuous (A): 0.7; DatasheetVersion: Rev. 5; PackageVersion: Rev. N, 06/2012; PackageReference: SC-74-6-318F-05; PackageDescription: 6-Pin Small Outline Transistor, Body 3 x 1.5 mm, Pitch 0.95 mm; Packing: Tape and Reel; Polarity: PNP; RoHS: FALSE; Mounting Technology: Surface Mount; ComponentLink1Description: Manufacturer URL; ComponentLink1URL: http://www.onsemi.com/; ComponentLink2Description: Datasheet; ComponentLink2URL: http://www.onsemi.cn/pub_link/Collateral/MMBT2131T1-D.PDF; ComponentLink3Description: Package Specification; ComponentLink3URL: http://www.onsemi.com/pub_link/Collateral/318F-05.PDF
footprint ONSC-SC-74-6-318F-05_V (SOT23, 6-Leads, Body 3x1.5mm, Pitch 0.95mm)
part A pins: 2 C, 3 E, 5 C, 6 B
part B pins: 1 NC, 4 NC
part A text: 2, 5

## MMBT2131T1G
designator Q?
PNP Bipolar Junction Transistor, 6-Pin SC-74, Pb-Free, Tape and Reel; Manufacturer: On Semiconductor; PartNumber: MMBT2131T1G; IC Continuous (A): 0.7; DatasheetVersion: Rev. 5; PackageVersion: Rev. N, 06/2012; PackageReference: SC-74-6-318F-05; PackageDescription: 6-Pin Small Outline Transistor, Body 3 x 1.5 mm, Pitch 0.95 mm; Supplier 1: Digi-Key; Supplier Part Number 1: MMBT2131T1G-ND; Supplier 2: Mouser; Supplier Part Number 2: 863-MMBT2131T1G; Packing: Tape and Reel; Polarity: PNP; RoHS: TRUE; Mounting Technology: Surface Mount; ComponentLink1Description: Manufacturer URL; ComponentLink1URL: http://www.onsemi.com/; ComponentLink2Description: Datasheet; ComponentLink2URL: http://www.onsemi.cn/pub_link/Collateral/MMBT2131T1-D.PDF; ComponentLink3Description: Package Specification; ComponentLink3URL: http://www.onsemi.com/pub_link/Collateral/318F-05.PDF
footprint ONSC-SC-74-6-318F-05_V (SOT23, 6-Leads, Body 3x1.5mm, Pitch 0.95mm)
part A pins: 2 C, 3 E, 5 C, 6 B
part B pins: 1 NC, 4 NC
part A text: 2, 5

## MMBT2222ALT1
designator Q?
General Purpose Transistor, NPN Silicon, 3-Pin SOT-23, Tape and Reel; Manufacturer: On Semiconductor; PartNumber: MMBT2222ALT1; fT Min (MHz): 300; IC Continuous (A): 0.6; DatasheetVersion: Rev. 10; PackageVersion: Rev. AP, 11/2009; PackageReference: SOT-23-3-318-08; PackageDescription: 3-Pin Small Outline Transistor, Body 2.92 x 1.3 mm, Pitch 0.95 mm; Supplier 1: Digi-Key; Supplier Part Number 1: MMBT2222ALT1OSCT-ND; Packing: Tape and Reel; Polarity: NPN; RoHS: FALSE; Mounting Technology: Surface Mount; ComponentLink1Description: Manufacturer URL; ComponentLink1URL: http://www.onsemi.com/; ComponentLink2Description: Datasheet; ComponentLink2URL: http://www.onsemi.cn/pub_link/Collateral/MMBT2222LT1-D.PDF; ComponentLink3Description: Package Specification; ComponentLink3URL: http://www.onsemi.cn/pub_link/Collateral/318-08.PDF
footprint ONSC-SOT-23-3-318-08_V (SOT23, 3-Leads, Body 2.92x1.3mm, Pitch 0.95mm)
pins: 1 B, 2 E, 3 C

## MMBT2222ALT1G
designator Q?
General Purpose Transistor, NPN Silicon, 3-Pin SOT-23, Pb-Free, Tape and Reel; Manufacturer: On Semiconductor; PartNumber: MMBT2222ALT1G; fT Min (MHz): 300; IC Continuous (A): 0.6; DatasheetVersion: Rev. 10; PackageVersion: Rev. AP, 11/2009; PackageReference: SOT-23-3-318-08; PackageDescription: 3-Pin Small Outline Transistor, Body 2.92 x 1.3 mm, Pitch 0.95 mm; Supplier 1: Digi-Key; Supplier Part Number 1: MMBT2222ALT1GOSTR-ND; Supplier 2: Digi-Key; Supplier Part Number 2: MMBT2222ALT1GOSCT-ND; Supplier 3: Digi-Key; Supplier Part Number 3: MMBT2222ALT1GOSDKR-ND; Supplier 4: Farnell; Supplier Part Number 4: 1459098; Supplier 5: Farnell; Supplier Part Number 5: 1459098RL; Supplier 6: Newark; Supplier Part Number 6: 67H6854; Supplier 7: Newark; Supplier Part Number 7: 84K8795; Supplier 8: Mouser; Supplier Part Number 8: 863-MMBT2222ALT1G; Packing: Tape and Reel; Polarity: NPN; RoHS: TRUE; Mounting Technology: Surface Mount; ComponentLink1Description: Manufacturer URL; ComponentLink1URL: http://www.onsemi.com/; ComponentLink2Description: Datasheet; ComponentLink2URL: http://www.onsemi.cn/pub_link/Collateral/MMBT2222LT1-D.PDF; ComponentLink3Description: Package Specification; ComponentLink3URL: http://www.onsemi.cn/pub_link/Collateral/318-08.PDF
footprint ONSC-SOT-23-3-318-08_V (SOT23, 3-Leads, Body 2.92x1.3mm, Pitch 0.95mm)
pins: 1 B, 2 E, 3 C

## MMBT2222ALT3
designator Q?
General Purpose Transistor, NPN Silicon, 3-Pin SOT-23, Tape and Reel; Manufacturer: On Semiconductor; PartNumber: MMBT2222ALT3; Note: 0; fT Min (MHz): 300; IC Continuous (A): 0.6; DatasheetVersion: Rev. 10; PackageVersion: Rev. AP, 11/2009; PackageReference: SOT-23-3-318-08; PackageDescription: 3-Pin Small Outline Transistor, Body 2.92 x 1.3 mm, Pitch 0.95 mm; Packing: Tape and Reel; Polarity: NPN; RoHS: FALSE; Mounting Technology: Surface Mount; ComponentLink1Description: Manufacturer URL; ComponentLink1URL: http://www.onsemi.com/; ComponentLink2Description: Datasheet; ComponentLink2URL: http://www.onsemi.cn/pub_link/Collateral/MMBT2222LT1-D.PDF; ComponentLink3Description: Package Specification; ComponentLink3URL: http://www.onsemi.cn/pub_link/Collateral/318-08.PDF
footprint ONSC-SOT-23-3-318-08_V (SOT23, 3-Leads, Body 2.92x1.3mm, Pitch 0.95mm)
pins: 1 B, 2 E, 3 C

## MMBT2222ALT3G
designator Q?
General Purpose Transistor, NPN Silicon, 3-Pin SOT-23, Pb-Free, Tape and Reel; Manufacturer: On Semiconductor; PartNumber: MMBT2222ALT3G; fT Min (MHz): 300; IC Continuous (A): 0.6; DatasheetVersion: Rev. 10; PackageVersion: Rev. AP, 11/2009; PackageReference: SOT-23-3-318-08; PackageDescription: 3-Pin Small Outline Transistor, Body 2.92 x 1.3 mm, Pitch 0.95 mm; Supplier 1: Digi-Key; Supplier Part Number 1: MMBT2222ALT3GOSTR-ND; Supplier 2: Digi-Key; Supplier Part Number 2: MMBT2222ALT3GOSCT-ND; Supplier 3: Digi-Key; Supplier Part Number 3: MMBT2222ALT3GOSDKR-ND; Supplier 4: Farnell; Supplier Part Number 4: 2372922; Supplier 5: Newark; Supplier Part Number 5: 98H0746; Supplier 6: Newark; Supplier Part Number 6: 10N9478; Supplier 7: Mouser; Supplier Part Number 7: 863-MMBT2222ALT3G; Packing: Tape and Reel; Polarity: NPN; RoHS: TRUE; Mounting Technology: Surface Mount; ComponentLink1Description: Manufacturer URL; ComponentLink1URL: http://www.onsemi.com/; ComponentLink2Description: Datasheet; ComponentLink2URL: http://www.onsemi.cn/pub_link/Collateral/MMBT2222LT1-D.PDF; ComponentLink3Description: Package Specification; ComponentLink3URL: http://www.onsemi.cn/pub_link/Collateral/318-08.PDF
footprint ONSC-SOT-23-3-318-08_V (SOT23, 3-Leads, Body 2.92x1.3mm, Pitch 0.95mm)
pins: 1 B, 2 E, 3 C

## MMBT2222AM3T5G
designator Q?
NPN General Purpose Transistor, 3-Pin SOT-723, Pb-Free, Tape and Reel; Manufacturer: On Semiconductor; PartNumber: MMBT2222AM3T5G; fT Min (MHz): 300; IC Continuous (A): 0.6; DatasheetVersion: Rev. 1; PackageVersion: Rev. D, 08/2009; PackageReference: SOT-723-3-631AA-01; PackageDescription: 3-Pin Small Outline Transistor, Body 1.2 x 0.8 mm, Pitch 0.4 mm; Supplier 1: Digi-Key; Supplier Part Number 1: MMBT2222AM3T5GOSTR-ND; Supplier 2: Digi-Key; Supplier Part Number 2: MMBT2222AM3T5GOSCT-ND; Supplier 3: Digi-Key; Supplier Part Number 3: MMBT2222AM3T5GOSDKR-ND; Supplier 4: Farnell; Supplier Part Number 4: 2317543; Supplier 5: Newark; Supplier Part Number 5: 90W4493; Supplier 6: Newark; Supplier Part Number 6: 85W3164; Supplier 7: Newark; Supplier Part Number 7: 05R9073; Supplier 8: Mouser; Supplier Part Number 8: 863-MMBT2222AM3T5G; Packing: Tape and Reel; Polarity: NPN; RoHS: TRUE; Mounting Technology: Surface Mount; ComponentLink1Description: Manufacturer URL; ComponentLink1URL: http://www.onsemi.com/; ComponentLink2Description: Datasheet; ComponentLink2URL: http://www.onsemi.cn/pub_link/Collateral/MMBT2222AM3-D.PDF; ComponentLink3Description: Package Specification; ComponentLink3URL: http://www.onsemi.com/pub_link/Collateral/631AA.PDF
footprint ONSC-SOT-723-3-631AA-01_V (SOT223, 3-Leads, Body 1.2x0.8mm, Pitch 0.4mm)
pins: 1 B, 2 E, 3 C

## MMBT2222ATT1
designator Q?
General Purpose Transistor, NPN Silicon, 3-Pin SC-75, Tape and Reel; Manufacturer: On Semiconductor; PartNumber: MMBT2222ATT1; Note: 0; fT Min (MHz): 300; IC Continuous (A): 0.6; DatasheetVersion: Rev. 5; PackageVersion: Rev. F, 07/2005; PackageReference: SC-75-3-463-01; PackageDescription: 3-Pin Small Outline Transistor, Body 1.6 x 0.8 mm, Pitch 0.5 mm; Packing: Tape and Reel; Polarity: NPN; RoHS: FALSE; Mounting Technology: Surface Mount; ComponentLink1Description: Manufacturer URL; ComponentLink1URL: http://www.onsemi.com/; ComponentLink2Description: Datasheet; ComponentLink2URL: http://www.onsemi.cn/pub_link/Collateral/MMBT2222ATT1-D.PDF; ComponentLink3Description: Package Specification; ComponentLink3URL: http://www.onsemi.com/pub_link/Collateral/463-01.PDF
footprint ONSC-SC-75-3-463-01_V (SOT23, 3-Leads, Body 1.6x0.8mm, Pitch 0.5mm)
pins: 1 B, 2 E, 3 C

## MMBT2222ATT1G
designator Q?
General Purpose Transistor, NPN Silicon, 3-Pin SC-75, Pb-Free, Tape and Reel; Manufacturer: On Semiconductor; PartNumber: MMBT2222ATT1G; fT Min (MHz): 300; IC Continuous (A): 0.6; DatasheetVersion: Rev. 5; PackageVersion: Rev. F, 07/2005; PackageReference: SC-75-3-463-01; PackageDescription: 3-Pin Small Outline Transistor, Body 1.6 x 0.8 mm, Pitch 0.5 mm; Supplier 1: Digi-Key; Supplier Part Number 1: MMBT2222ATT1GOSTR-ND; Supplier 2: Digi-Key; Supplier Part Number 2: MMBT2222ATT1GOSCT-ND; Supplier 3: Digi-Key; Supplier Part Number 3: MMBT2222ATT1GOSDKR-ND; Supplier 4: Farnell; Supplier Part Number 4: 2317877; Supplier 5: Newark; Supplier Part Number 5: 10N9479; Supplier 6: Newark; Supplier Part Number 6: 98H0747; Supplier 7: Mouser; Supplier Part Number 7: 863-MMBT2222ATT1G; Packing: Tape and Reel; Polarity: NPN; RoHS: TRUE; Mounting Technology: Surface Mount; ComponentLink1Description: Manufacturer URL; ComponentLink1URL: http://www.onsemi.com/; ComponentLink2Description: Datasheet; ComponentLink2URL: http://www.onsemi.cn/pub_link/Collateral/MMBT2222ATT1-D.PDF; ComponentLink3Description: Package Specification; ComponentLink3URL: http://www.onsemi.com/pub_link/Collateral/463-01.PDF
footprint ONSC-SC-75-3-463-01_V (SOT23, 3-Leads, Body 1.6x0.8mm, Pitch 0.5mm)
pins: 1 B, 2 E, 3 C

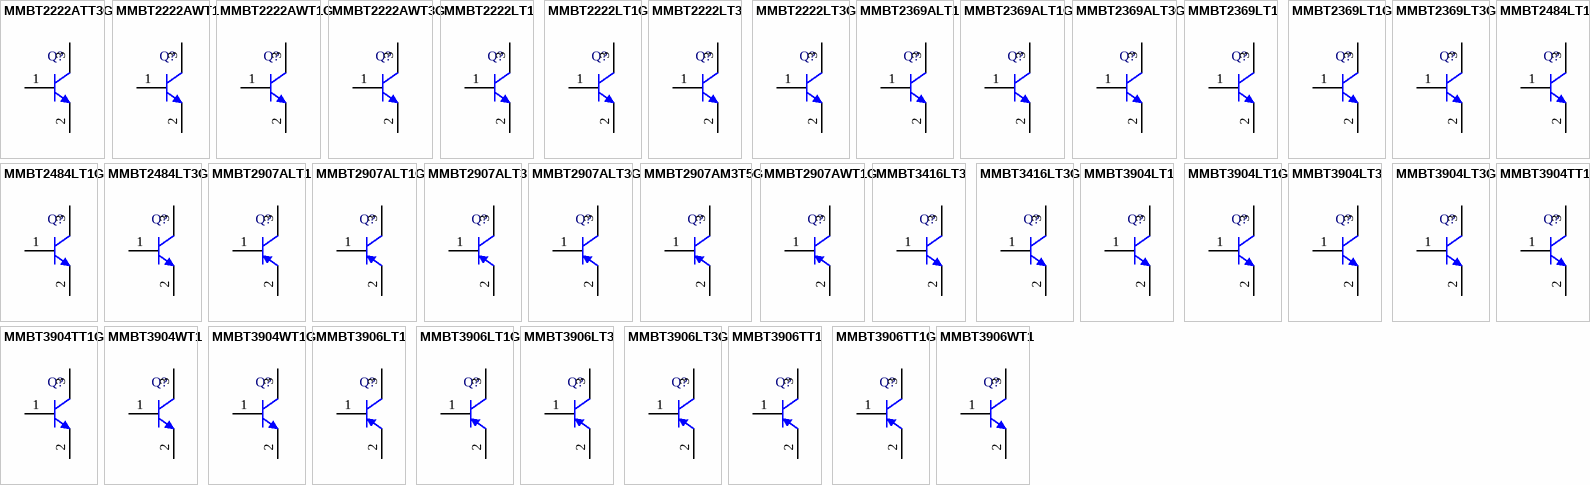
[diagram p27: symbols MMBT2222ATT3G to MMBT3906WT1]

## MMBT2222ATT3G
designator Q?
General Purpose Transistor, NPN Silicon, 3-Pin SC-75, Pb-Free, Tape and Reel; Manufacturer: On Semiconductor; PartNumber: MMBT2222ATT3G; fT Min (MHz): 300; IC Continuous (A): 0.6; DatasheetVersion: Rev. 5; PackageVersion: Rev. F, 07/2005; PackageReference: SC-75-3-463-01; PackageDescription: 3-Pin Small Outline Transistor, Body 1.6 x 0.8 mm, Pitch 0.5 mm; Supplier 1: Digi-Key; Supplier Part Number 1: MMBT2222ATT3G-ND; Supplier 2: Mouser; Supplier Part Number 2: 863-MMBT2222ATT3G; Packing: Tape and Reel; Polarity: NPN; RoHS: TRUE; Mounting Technology: Surface Mount; ComponentLink1Description: Manufacturer URL; ComponentLink1URL: http://www.onsemi.com/; ComponentLink2Description: Datasheet; ComponentLink2URL: http://www.onsemi.cn/pub_link/Collateral/MMBT2222ATT1-D.PDF; ComponentLink3Description: Package Specification; ComponentLink3URL: http://www.onsemi.com/pub_link/Collateral/463-01.PDF
footprint ONSC-SC-75-3-463-01_V (SOT23, 3-Leads, Body 1.6x0.8mm, Pitch 0.5mm)
pins: 1 B, 2 E, 3 C

## MMBT2222AWT1
designator Q?
General Purpose Transistor, NPN Silicon, 3-Pin SC70, Tape and Reel; Manufacturer: On Semiconductor; PartNumber: MMBT2222AWT1; fT Min (MHz): 300; IC Continuous (A): 0.6; DatasheetVersion: Rev. 6; PackageVersion: Rev. N, 11/2008; PackageReference: SC-70-3-419-04; PackageDescription: 3-Pin Small Outline Transistor, Body 2 x 1.25 mm, Pitch 0.65 mm; Supplier 1: Digi-Key; Supplier Part Number 1: MMBT2222AWT1OSCT-ND; Packing: Tape and Reel; Polarity: NPN; RoHS: FALSE; Mounting Technology: Surface Mount; ComponentLink1Description: Manufacturer URL; ComponentLink1URL: http://www.onsemi.com/; ComponentLink2Description: Datasheet; ComponentLink2URL: http://www.onsemi.cn/pub_link/Collateral/MMBT2222AWT1-D.PDF; ComponentLink3Description: Package Specification; ComponentLink3URL: http://www.onsemi.cn/pub_link/Collateral/419-04.PDF
footprint ONSC-SC-70-3-419-04_V (SOT23, 3-Leads, Body 2x1.25mm, Pitch 0.65mm)
pins: 1 B, 2 E, 3 C

## MMBT2222AWT1G
designator Q?
General Purpose Transistor, NPN Silicon, 3-Pin SC70, Pb-Free, Tape and Reel; Manufacturer: On Semiconductor; PartNumber: MMBT2222AWT1G; fT Min (MHz): 300; IC Continuous (A): 0.6; DatasheetVersion: Rev. 6; PackageVersion: Rev. N, 11/2008; PackageReference: SC-70-3-419-04; PackageDescription: 3-Pin Small Outline Transistor, Body 2 x 1.25 mm, Pitch 0.65 mm; Supplier 1: Digi-Key; Supplier Part Number 1: MMBT2222AWT1GOSTR-ND; Supplier 2: Digi-Key; Supplier Part Number 2: MMBT2222AWT1GOSCT-ND; Supplier 3: Digi-Key; Supplier Part Number 3: MMBT2222AWT1GOSDKR-ND; Supplier 4: Farnell; Supplier Part Number 4: 2317589; Supplier 5: Farnell; Supplier Part Number 5: 2317835; Supplier 6: Farnell; Supplier Part Number 6: 1147942; Supplier 7: Newark; Supplier Part Number 7: 85W3165; Supplier 8: Newark; Supplier Part Number 8: 98H0748; Supplier 9: Mouser; Supplier Part Number 9: 863-MMBT2222AWT1G; Packing: Tape and Reel; Polarity: NPN; RoHS: TRUE; Mounting Technology: Surface Mount; ComponentLink1Description: Manufacturer URL; ComponentLink1URL: http://www.onsemi.com/; ComponentLink2Description: Datasheet; ComponentLink2URL: http://www.onsemi.cn/pub_link/Collateral/MMBT2222AWT1-D.PDF; ComponentLink3Description: Package Specification; ComponentLink3URL: http://www.onsemi.cn/pub_link/Collateral/419-04.PDF
footprint ONSC-SC-70-3-419-04_V (SOT23, 3-Leads, Body 2x1.25mm, Pitch 0.65mm)
pins: 1 B, 2 E, 3 C